# EAGLE library part 1-2199298-3 (library 1-2199298-3)
2.54mm low profile THT DIL socket,14 way TE Connectivity 1-2199298 2.54mm Pitch Straight 14 Way, Through Hole Standard Pin Ladder IC Dip Socket, 1A Source: Datasheet <https://componentsearchengine.com/Datasheets/2/1-2199298-3.pdf>
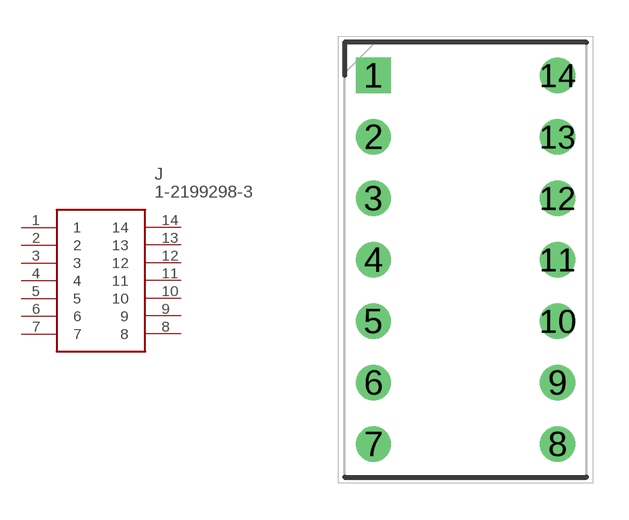
[diagram p0: symbol with the pads of DIPS762W70P254L1778H510Q14N; footprint DIPS762W70P254L1778H510Q14N]

Designator prefix J

## 1-2199298-3 (Description: 2.54mm low profile THT DIL socket,14 way TE Connectivity 1-2199298 2.54mm Pitch Straight 14 Way, Through Hole Standard Pin Ladder IC Dip Socket, 1A; Height: 5.1mm; Manufacturer_Name: TE Connectivity; Manufacturer_Part_Number: 1-2199298-3; Mouser_Part_Number: 571-1-2199298-3; Mouser_Price-Stock: https://www.mouser.co.uk/ProductDetail/TE-Connectivity/1-2199298-3?qs=fK8dlpkaUMtBOtVI99wRlQ%3D%3D)  [DIPS762W70P254L1778H510Q14N]
1  1
2  2
3  3
4  4
5  5
6  6
7  7
8  8
9  9
10  10
11  11
12  12
13  13
14  14

## Footprint DIPS762W70P254L1778H510Q14N (pad centres in mm)
1-2199298-3
drill 0.95 pad 1.425 square: 1 0,0
drill 0.95 pad 1.425: 2 0,-2.54; 3 0,-5.08; 4 0,-7.62; 5 0,-10.16; 6 0,-12.7; 7 0,-15.24; 8 7.62,-15.24; 9 7.62,-12.7; 10 7.62,-10.16; 11 7.62,-7.62; 12 7.62,-5.08; 13 7.62,-2.54; 14 7.62,0